# Altium footprint library Communication Connectors.PcbLib: 8 footprints
Each footprint in its own frame and in the unit in brackets; x right, y up, seen from the top. Pads: shape width x height; smd on the part's side, far side on the other; paste and mask are expansions set on the pad; w line width, h text height; cw(c..) or ccw(c..) is an arc to the next point about the centre after c.
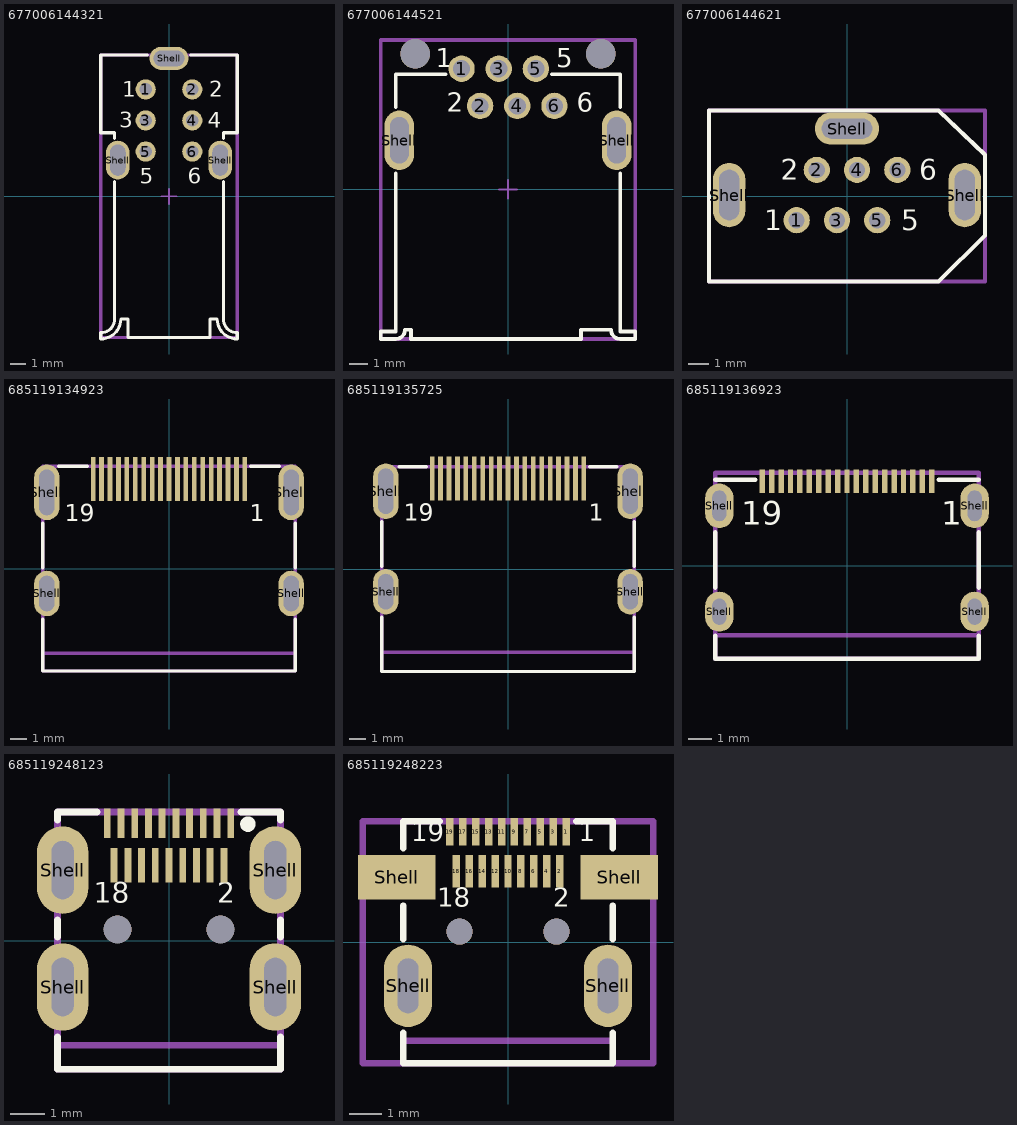
[diagram p0: the footprints below, top view; thin cyan lines are the x and y axes]

## 677006144321 [mm] "IEEE 1394 Up Right Receptacle WR-COM"
height 14
pads (9):
  round 1.3 hole 0.8: 1(-1.5,6.89) 2(1.5,6.89) 3(-1.5,4.89) 4(1.5,4.89) 5(-1.5,2.89) 6(1.5,2.89)
  oval 1.5x2.5 hole 1 slot 2 at 90 deg: Shell(-3.3,2.34) Shell(3.3,2.34)
  oval 2.5x1.5 hole 1 slot 2 at 0 deg: Shell(0,8.89)
Top Overlay:
  lines w0.2: -3.5,0.94 -3.5,-7.89 cw(c-4.4,-7.89) -4.4,-8.79 -4.4,-9.19 ccw(c-4.4,-7.89) -3.1,-7.89 -2.65,-7.89 -2.65,-9.1 2.65,-9.1 2.65,-7.89 3.1,-7.89 ccw(c4.4,-7.89) 4.4,-9.19 4.4,-8.79 cw(c4.4,-7.89) 3.5,-7.89 3.5,0.94 ; -3.5,3.74 -3.5,4.1 -4.4,4.1 -4.4,9.1 -1.4,9.1 ; 1.4,9.1 4.4,9.1 4.4,4.1 3.5,4.1 3.5,3.74
  text "1" at -3,6.415 h1.02
  text "2" at 2.6,6.415 h1.02
  text "3" at -3.2,4.415 h1.02
  text "4" at 2.5,4.415 h1.02
  text "5" at -1.9,0.815 h1.02
  text "6" at 1.2,0.815 h1.02
Mechanical 13:
  lines w0.2: -4.4,-9.1 -4.4,9.1 4.4,9.1 4.4,-9.1 -4.4,-9.1
Mechanical 15:
  lines w0.1: -0.5,0 0.5,0 ; 0,-0.5 0,0.5
3D body "677006144321.stp": height 13.4, standoff -3.24, extent -4.4,-9.1 4.4,9.1

## 677006144521 [mm] "IEEE 1394 Horizontal Receptacle WR-COM"
height 7.95
pads (10):
  round 1.42 hole 0.92: 1(-2.5,6.5) 2(-1.5,4.5) 3(-0.5,6.5) 4(0.5,4.5) 5(1.5,6.5) 6(2.5,4.5)
  oval 1.6x3.2 hole 1 slot 2.5 at 90 deg: Shell(-5.85,2.65) Shell(5.85,2.65)
  round 1.6 hole 1.6 unplated: ""(-5,7.3) ""(5,7.3)
Top Overlay:
  lines w0.2: -6.05,0.88 -6.05,-7.65 -6.85,-7.65 -6.85,-8.05 -6.039,-8.05 ; -6.05,4.43 -6.05,6.2 -3.36,6.2 ; -6.039,-8.05 ccw(c-6.039,-7.561) -5.55,-7.549 -5.22,-7.55 -5.22,-8.05 3.93,-8.05 3.93,-7.55 5.55,-7.55 ; 2.36,6.2 6.05,6.2 6.05,4.43 ; 5.55,-7.549 ccw(c6.039,-7.561) 6.039,-8.05 ; 6.039,-8.05 6.85,-8.05 6.85,-7.65 6.05,-7.65 6.05,0.88
  text "1" at -3.9,6.575 h1.02
  text "5" at 2.6,6.575 h1.02
  text "2" at -3.3,4.175 h1.02
  text "6" at 3.7,4.175 h1.02
Mechanical 13:
  lines w0.2: -6.85,-8.05 -6.85,8.05 6.85,8.05 6.85,-8.05 -6.85,-8.05
Mechanical 15:
  lines w0.1: -0.5,0 0.5,0 ; 0,-0.5 0,0.5
3D body "677006144521.stp": height 8.8, standoff -3.3, extent -6.85,-8.05 6.85,8.05

## 677006144621 [mm] "IEEE 1394 Vertical Receptacle"
height 14.8
pads (9):
  round 1.3 hole 0.8: 1(-2.5,-1.2) 2(-1.5,1.3) 3(-0.5,-1.2) 4(0.5,1.3) 5(1.5,-1.2) 6(2.5,1.3)
  oval 1.6x3.2 hole 1 slot 2.5 at 90 deg: Shell(-5.85,0.05) Shell(5.85,0.05)
  oval 3.2x1.6 hole 1 slot 2.5 at 0 deg: Shell(0,3.35)
Top Overlay:
  lines w0.2: -6.85,-4.25 -6.85,4.25 4.55,4.25 6.85,2.05 6.85,-1.95 4.55,-4.25 -6.85,-4.25
  text "1" at -4.1,-1.7 h1.02
  text "2" at -3.3,0.8 h1.02
  text "5" at 2.7,-1.7 h1.02
  text "6" at 3.6,0.8 h1.02
Mechanical 13:
  lines w0.2: -6.85,-4.25 6.85,-4.25 6.85,4.25 -6.85,4.25 -6.85,-4.25
3D body "677006144621.stp": height 14.8, standoff -3.45, extent -6.85,-4.2 6.85,4.3

## 685119134923 [mm] "HDMI SMT Horizontal"
height 6.13
pads (23):
  rect 0.28x2.6 smd: 1(4.5,5.325) 2(4,5.325) 3(3.5,5.325) 4(3,5.325) 5(2.5,5.325) 6(2,5.325) 7(1.5,5.325) 8(1,5.325) 9(0.5,5.325) 10(0,5.325) 11(-0.5,5.325) 12(-1,5.325) 13(-1.5,5.325) 14(-2,5.325) 15(-2.5,5.325) 16(-3,5.325) 17(-3.5,5.325) 18(-4,5.325) 19(-4.5,5.325)
  oval 1.5x2.7 hole 0.9 slot 2.1 at 90 deg: Shell(-7.25,-1.475) Shell(7.25,-1.475)
  oval 1.5x3.3 hole 0.9 slot 2.7 at 90 deg: Shell(-7.25,4.525) Shell(7.25,4.525)
Top Overlay:
  lines w0.2: -7.5,-2.985 -7.5,-6.075 7.5,-6.075 7.5,-2.985 ; -7.5,0.035 -7.5,2.705 ; -6.55,6.075 -4.84,6.075 ; 4.84,6.075 6.55,6.075 ; 7.5,0.035 7.5,2.705
  text "1" at 4.8,2.8 h1.02
  text "19" at -6.2,2.8 h1.02
Mechanical 13:
  lines w0.2: -7.5,-6.075 -7.5,6.075 7.5,6.075 7.5,-6.075 -7.5,-6.075
Mechanical 15:
  lines w0.2: -7.5,-5.025 7.5,-5.025
  text "PCB Edge" at -1.794,-4.721 h1
3D body "685119134923.stp": height 6.17, standoff -2.21, extent -7.5,-6.075 7.5,6.075

## 685119135725 [mm] "HDMI SMT Horizontal with M3 screw"
height 16.05
pads (23):
  rect 0.28x2.6 smd: 1(4.5,5.385) 2(4,5.385) 3(3.5,5.385) 4(3,5.385) 5(2.5,5.385) 6(2,5.385) 7(1.5,5.385) 8(1,5.385) 9(0.5,5.385) 10(0,5.385) 11(-0.5,5.385) 12(-1,5.385) 13(-1.5,5.385) 14(-2,5.385) 15(-2.5,5.385) 16(-3,5.385) 17(-3.5,5.385) 18(-4,5.385) 19(-4.5,5.385)
  oval 1.5x2.7 hole 0.9 slot 2.1 at 90 deg: Shell(-7.25,-1.335) Shell(7.25,-1.335)
  oval 1.5x3.3 hole 0.9 slot 2.7 at 90 deg: Shell(-7.25,4.625) Shell(7.25,4.625)
Top Overlay:
  lines w0.2: -7.5,-2.845 -7.5,-6.075 7.5,-6.075 7.5,-2.845 ; -7.5,0.175 -7.5,2.815 ; -6.47,6.075 -4.84,6.075 ; 4.84,6.075 6.47,6.075 ; 7.5,0.175 7.5,2.815
  text "19" at -6.2,2.86 h1.02
  text "1" at 4.8,2.86 h1.02
Mechanical 13:
  lines w0.2: -7.5,-6.075 -7.5,6.075 7.5,6.075 7.5,-6.075 -7.5,-6.075
Mechanical 15:
  lines w0.2: -7.5,-4.925 7.5,-4.925
  text "PCB Edge" at -1.794,-4.621 h1
3D body "685119135725.stp": height 16.1, standoff -2.15, extent -7.5,-6.075 7.5,6.075

## 685119136923 [mm] "Mini HDMI SMT Horizontal"
height 3.3
pads (23):
  rect 0.23x1 smd: 1(3.6,3.6) 2(3.2,3.6) 3(2.8,3.6) 4(2.4,3.6) 5(2,3.6) 6(1.6,3.6) 7(1.2,3.6) 8(0.8,3.6) 9(0.4,3.6) 10(0,3.6) 11(-0.4,3.6) 12(-0.8,3.6) 13(-1.2,3.6) 14(-1.6,3.6) 15(-2,3.6) 16(-2.4,3.6) 17(-2.8,3.6) 18(-3.2,3.6) 19(-3.6,3.6)
  oval 1.2x1.7 hole 0.6 slot 1.1 at 90 deg: Shell(-5.425,-1.95) Shell(5.425,-1.95)
  oval 1.2x1.9 hole 0.6 slot 1.3 at 90 deg: Shell(-5.425,2.55) Shell(5.425,2.55)
Top Overlay:
  lines w0.2: -5.6,-2.98 -5.6,-3.95 5.6,-3.95 5.6,-2.98 ; -5.6,-0.92 -5.6,1.42 ; -5.6,3.65 -3.9,3.65 ; 3.9,3.65 5.6,3.65 ; 5.6,-0.92 5.6,1.42
  text "19" at -4.5,1.75 h1.02
  text "1" at 4,1.75 h1.02
Mechanical 13:
  lines w0.2: -5.6,-3.95 5.6,-3.95 5.6,3.95 -5.6,3.95 -5.6,-3.95
Mechanical 15:
  lines w0.2: -5.6,-2.95 5.6,-2.95
  text "PCB Edge" at -1.794,-2.646 h0.89
3D body "685119136923.stp": height 3.29, standoff -2.16, extent -5.625,-3.95 5.625,3.952

## 685119248123 [mm] "Micro HDMI Horizontal SMT"
height 3
pads (25):
  rect 0.2x0.85 smd: 1(1.8,3.425) 3(1.4,3.425) 5(1,3.425) 7(0.6,3.425) 9(0.2,3.425) 11(-0.2,3.425) 13(-0.6,3.425) 15(-1,3.425) 17(-1.4,3.425) 19(-1.8,3.425)
  rect 0.2x1 smd: 2(1.6,2.2) 4(1.2,2.2) 6(0.8,2.2) 8(0.4,2.2) 10(0,2.2) 12(-0.4,2.2) 14(-0.8,2.2) 16(-1.2,2.2) 18(-1.6,2.2)
  oval 1.5x2.55 hole 0.65 slot 1.7 at 90 deg: Shell(-3.1,-1.35) Shell(-3.1,2.06) Shell(3.1,-1.35) Shell(3.1,2.06)
  round 0.81 hole 0.81 unplated: ""(-1.5,0.33) ""(1.5,0.33)
Top Overlay:
  circle w0.25: c2.3,3.4 r0.1
  lines w0.2: -3.25,-2.81 -3.25,-3.75 3.25,-3.75 3.25,-2.81 ; -3.25,0.11 -3.25,0.6 ; -3.25,3.52 -3.25,3.75 -2.1,3.75 ; 2.1,3.75 3.25,3.75 3.25,3.52 ; 3.25,0.11 3.25,0.6
  text "2" at 1.4,0.9 h1.02
  text "18" at -2.2,0.9 h1.02
Mechanical 13:
  lines w0.2: -3.25,-3.75 3.25,-3.75 3.25,3.75 -3.25,3.75 -3.25,-3.75
Mechanical 15:
  lines w0.2: -3.25,-3.05 3.25,-3.05
  text "PCB Edge" at -1.794,-2.746 h0.89
3D body "685119248123.stp": height 2.99, standoff -1.11, extent -3.25,-3.75 3.25,3.755

## 685119248223 [mm] "Micro HDMI Horizontal SMT Hybrid Mount"
height 3
pads (25):
  rect 0.23x0.85 smd: 1(1.8,3.425) 3(1.4,3.425) 5(1,3.425) 7(0.6,3.425) 9(0.2,3.425) 11(-0.2,3.425) 13(-0.6,3.425) 15(-1,3.425) 17(-1.4,3.425) 19(-1.8,3.425)
  rect 0.23x1 smd: 2(1.6,2.2) 4(1.2,2.2) 6(0.8,2.2) 8(0.4,2.2) 10(0,2.2) 12(-0.4,2.2) 14(-0.8,2.2) 16(-1.2,2.2) 18(-1.6,2.2)
  rect 2.4x1.38 smd: Shell(-3.45,2.02) Shell(3.45,2.02)
  oval 1.5x2.55 hole 0.65 slot 1.7 at 90 deg: Shell(-3.1,-1.35) Shell(3.1,-1.35)
  round 0.81 hole 0.81 unplated: ""(-1.5,0.33) ""(1.5,0.33)
Top Overlay:
  lines w0.2: -3.25,-2.81 -3.25,-3.75 3.25,-3.75 3.25,-2.81 ; -3.25,0.1 -3.25,1.14 ; -3.25,2.91 -3.25,3.75 -2.12,3.75 ; 2.12,3.75 3.25,3.75 3.25,2.91 ; 3.25,0.1 3.25,1.14
  text "2" at 1.4,0.9 h1.02
  text "18" at -2.2,0.9 h1.02
  text "19" at -3,2.938 h1.02
  text "1" at 2.2,2.938 h1.02
Mechanical 13:
  lines w0.2: -4.509,-3.75 4.509,-3.75 4.509,3.75 -4.509,3.75 -4.509,-3.75
Mechanical 15:
  lines w0.2: -3.25,-3.05 3.25,-3.05
  text "PCB Edge" at -1.794,-2.746 h0.89
3D body "685119248223.stp": height 2.99, standoff -1.11, extent -4.509,-3.75 4.509,3.755